# EAGLE library part DIPSY (library dipsy)
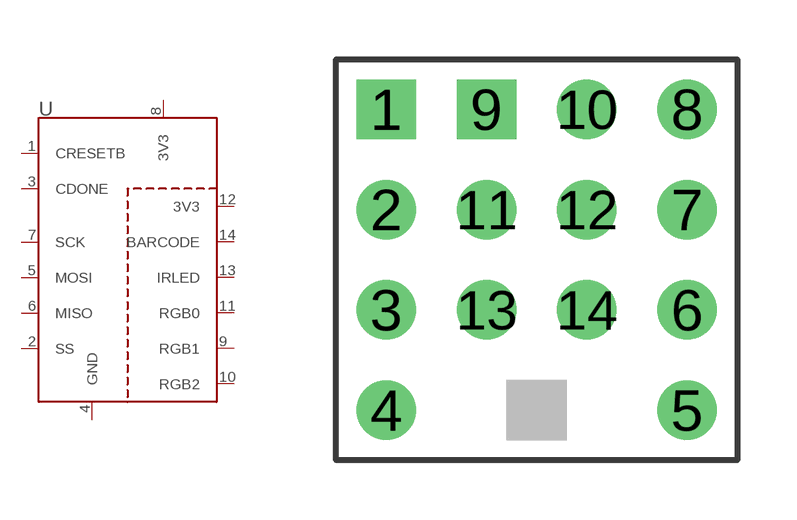
[diagram p0: symbol with the pads of DIPSY; footprint DIPSY]

Designator prefix U

## DIPSY  [DIPSY]
1  CRESETB  pas
2  SS
3  CDONE
4  GND  in
5  MOSI
6  MISO
7  SCK
8  3V3  in
9  RGB1
10  RGB2
11  RGB0
12  3V3  pwr
13  IRLED
14  BARCODE

## Footprint DIPSY (pad centres in mm)
drill 1 square: 1 -3.81,3.81; 9 -1.27,3.81
drill 1: 2 -3.81,1.27; 3 -3.81,-1.27; 4 -3.81,-3.81; 5 3.81,-3.81; 6 3.81,-1.27; 7 3.81,1.27; 8 3.81,3.81; 10 1.27,3.81; 11 -1.27,1.27; 12 1.27,1.27; 13 -1.27,-1.27; 14 1.27,-1.27